# EAGLE library part MAX31865ATP+ (library max31865ATP+)
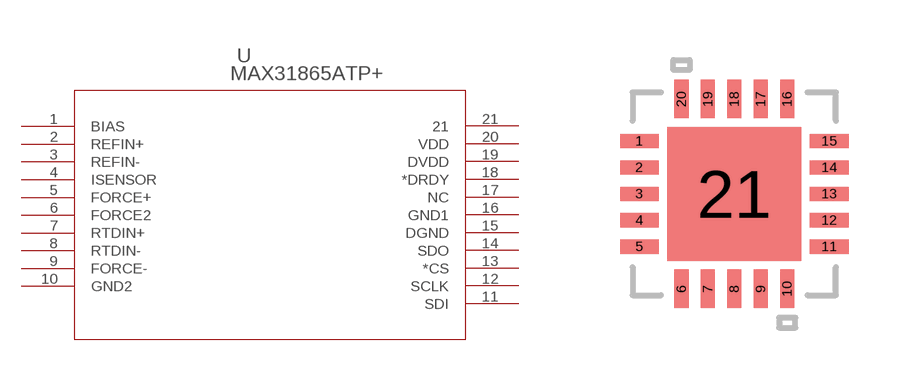
[diagram p0: symbol with the pads of 21-0140L_T2055-5; footprint 21-0140L_T2055-5]

Designator prefix U

## MAX31865ATP+ (MANUFACTURER_NAME: Maxim; MANUFACTURER_PART_NUMBER: MAX31865ATP+; VENDOR: Maxim)  [21-0140L_T2055-5]
1  BIAS  pas
2  REFIN+  pas
3  REFIN-  pas
4  ISENSOR  pas
5  FORCE+  pas
6  FORCE2  pas
7  RTDIN+  pas
8  RTDIN-  pas
9  FORCE-  pas
10  GND2  pwr
11  SDI  pas
12  SCLK  pas
13  *CS  pas
14  SDO  pas
15  DGND  pwr
16  GND1  pwr
17  NC  pas
18  *DRDY  pas
19  DVDD  pwr
20  VDD  pwr
21  21  pas

## Footprint 21-0140L_T2055-5 (pad centres in mm)
smd 0.965 x 0.356: 1 -2.375,1.321; 2 -2.375,0.66; 3 -2.375,0; 4 -2.375,-0.66; 5 -2.375,-1.321; 11 2.375,-1.321; 12 2.375,-0.66; 13 2.375,0; 14 2.375,0.66; 15 2.375,1.321
smd 0.356 x 0.965: 6 -1.321,-2.375; 7 -0.66,-2.375; 8 0,-2.375; 9 0.66,-2.375; 10 1.321,-2.375; 16 1.321,2.375; 17 0.66,2.375; 18 0,2.375; 19 -0.66,2.375; 20 -1.321,2.375
smd 3.353 x 3.353: 21 0,0